# EAGLE library part MMA8452Q (library freescale-semiconductor)
3-Axis, 12-bit/8-bit Digital Accelerometer The MMA8452Q is a smart low-power, three-axis, capacitive micromachined accelerometer with 12 bits of resolution. This accelerometer is packed with embedded functions with flexible user programmable options, configurable to two interrupt pins. Embedded interrupt functions allow for overall power savings relieving the host processor from continuously polling data. The MMA8452Q has user selectable full scales of ±2g/±4g/±8g with high pass filtered data as well as non filtered data available real-time. The device can be configured to generate inertial wakeup interrupt signals from any combination of the configurable embedded functions allowing the MMA8452Q to monitor events and remain in a low power mode during periods of inactivity. The MMA8452Q is available in a 3 mm x 3 mm x 1 mm QFN package.
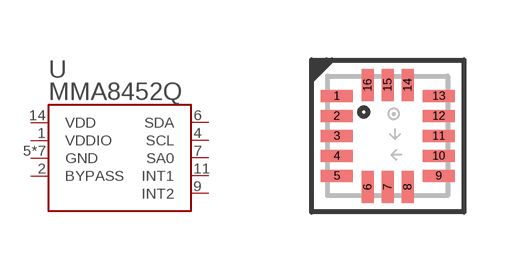
[diagram p0: symbol with the pads of QFN-16_0.5MM; footprint QFN-16_0.5MM]

Designator prefix U

## MMA8452Q  [QFN-16_0.5MM]
1  VDDIO  pwr
2  BYPASS  pas
4  SCL  oc
5  GND  pwr
6  SDA  oc
7  SA0  in
8  GND  pwr
9  INT2  out
10  GND  pwr
11  INT1  out
12  GND  pwr
13  GND  pwr
14  VDD  pwr
15  GND  pwr
16  GND  pwr

## Footprint QFN-16_0.5MM (pad centres in mm)
QFN-16 0.5mm Pitch 3 x 3mm Outline 16-pin Used on the MMA8452Q accelerometer Unproven Layout in accordance with App note AN4077 http://cache.freescale.com/files/sensors/doc/app_note/AN4077.pdf
smd 0.8 x 0.3: 1 -1.275,1; 2 -1.275,0.5; 3 -1.275,0; 4 -1.275,-0.5; 5 -1.275,-1; 9 1.275,-1; 10 1.275,-0.5; 11 1.275,0; 12 1.275,0.5; 13 1.275,1
smd 0.3 x 0.8: 6 -0.5,-1.275; 7 0,-1.275; 8 0.5,-1.275; 14 0.5,1.275; 15 0,1.275; 16 -0.5,1.275